# Altium schematic symbol library TMS.SchLib: 2 symbols
Pins are listed as number, name and electrical type; pins without a type are passive.

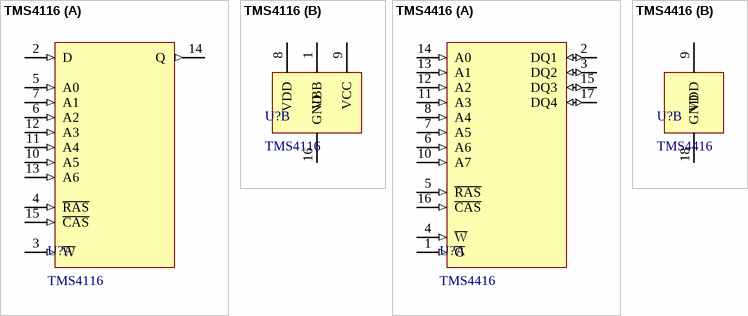
[diagram p0: symbols TMS4116 to TMS4416]

## TMS4116
designator U?
16,348 bit Dynamic RAM
footprint PDIP16
part A pins: 2 D (in), 3 ~{W} (in), 4 ~{RAS} (in), 5 A0 (in), 6 A2 (in), 7 A1 (in), 10 A5 (in), 11 A4 (in), 12 A3 (in), 13 A6 (in), 14 Q (out), 15 ~{CAS} (in)
part B pins: 1 VBB (power), 8 VDD (power), 9 VCC (power), 16 GND (power)

## TMS4416
designator U?
16,348 Word by 4-bit Dynamic RAM
footprint PDIP18
part A pins: 1 ~{G} (in), 2 DQ1 (io), 3 DQ2 (io), 4 ~{W} (in), 5 ~{RAS} (in), 6 A6 (in), 7 A5 (in), 8 A4 (in), 10 A7 (in), 11 A3 (in), 12 A2 (in), 13 A1 (in), 14 A0 (in), 15 DQ3 (io), 16 ~{CAS} (in), 17 DQ4 (io)
part B pins: 9 VDD (power), 18 GND (power)